# Altium schematic symbol library Switch.SchLib: 78 symbols
Pins are listed as number, name and electrical type; pins without a type are passive.

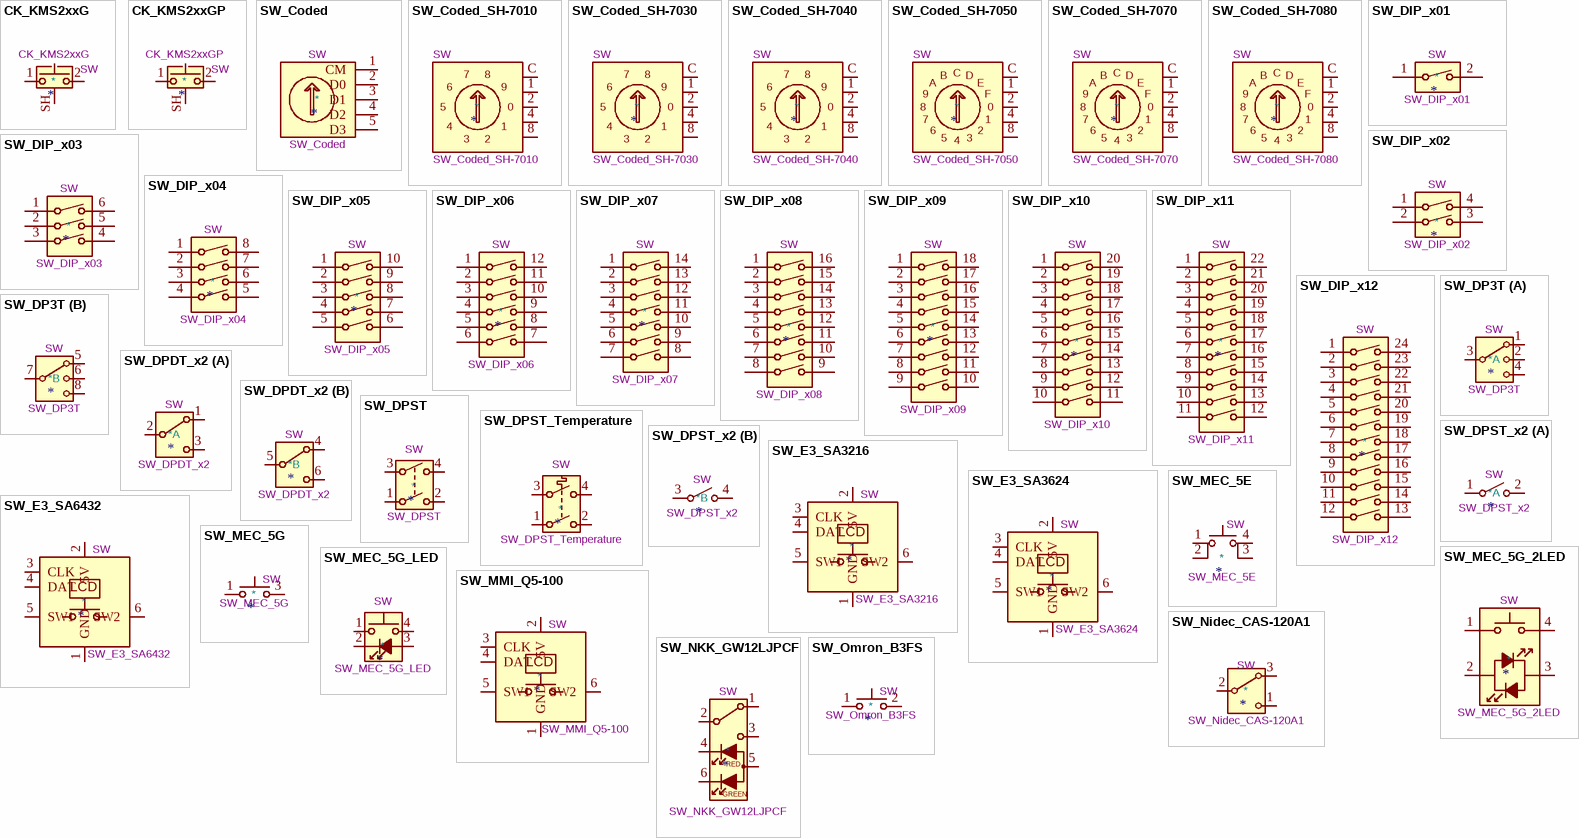
[diagram p0: symbols CK_KMS2xxG to SW_Omron_B3FS]

## CK_KMS2xxG
designator *  value CK_KMS2xxG  Reference: SW
Microminiature SMT Side Actuated, 4.2 x 2.8 x 1.42mm, without pegs, with shield pin; ki_keywords: switch normally-open pushbutton push-button; ki_fp_filters: *SW*KMS2*G*; Footprint: Button_Switch_SMD:SW_SPST_CK_KMS2xxGP; Datasheet: https://www.ckswitches.com/media/1482/kms.pdf; Description_: Microminiature SMT Side Actuated, 4.2 x 2.8 x 1.42mm, without pegs, with shield pin
pins: 1, 2, SH B

## CK_KMS2xxGP
designator *  value CK_KMS2xxGP  Reference: SW
Microminiature SMT Side Actuated, 4.2 x 2.8 x 1.42mm, with pegs, with shield pin; ki_keywords: switch normally-open pushbutton push-button; ki_fp_filters: *SW*KMS2*GP*; Footprint: Button_Switch_SMD:SW_SPST_CK_KMS2xxGP; Datasheet: https://www.ckswitches.com/media/1482/kms.pdf; Description_: Microminiature SMT Side Actuated, 4.2 x 2.8 x 1.42mm, with pegs, with shield pin
pins: 1, 2, SH B

## SW_Coded
designator *  value SW_Coded  Reference: SW
Rotary switch, 4-bit encoding; ki_keywords: rotary hex; Datasheet: ~; Description_: Rotary switch, 4-bit encoding
pins: 1 CM, 2 D0, 3 D1, 4 D2, 5 D3

## SW_Coded_SH-7010
designator *  value SW_Coded_SH-7010  Reference: SW
Rotary switch, 4-bit encoding, 10 positions, Real code; ki_keywords: rotary bcd Real; ki_fp_filters: Nidec*Copal*SH*7010*; Datasheet: https://www.nidec-copal-electronics.com/e/catalog/switch/sh-7000.pdf; Description_: Rotary switch, 4-bit encoding, 10 positions, Real code
pins: 1, 2, 4, 8, C
text: 7; 6; 9; 5; 0; 3

## SW_Coded_SH-7030
designator *  value SW_Coded_SH-7030  Reference: SW
Rotary switch, 4-bit encoding, 10 positions, Complementary code; ki_keywords: rotary bcd Complementary; ki_fp_filters: Nidec*Copal*SH*7010*; Datasheet: https://www.nidec-copal-electronics.com/e/catalog/switch/sh-7000.pdf; Description_: Rotary switch, 4-bit encoding, 10 positions, Complementary code
pins: 1, 2, 4, 8, C
text: 7; 6; 9; 5; 0; 3

## SW_Coded_SH-7040
designator *  value SW_Coded_SH-7040  Reference: SW
Rotary switch, 4-bit encoding, 10 positions, Gray code; ki_keywords: rotary bcd Gray; ki_fp_filters: Nidec*Copal*SH*7040*; Footprint: Button_Switch_SMD:Nidec_Copal_SH-7040B; Datasheet: https://www.nidec-copal-electronics.com/e/catalog/switch/sh-7000.pdf; Description_: Rotary switch, 4-bit encoding, 10 positions, Gray code
pins: 1, 2, 4, 8, C
text: 7; 6; 9; 5; 0; 3

## SW_Coded_SH-7050
designator *  value SW_Coded_SH-7050  Reference: SW
Rotary switch, 4-bit encoding, 16 positions, Real code; ki_keywords: rotary hex Real; ki_fp_filters: Nidec*Copal*SH*7010*; Datasheet: https://www.nidec-copal-electronics.com/e/catalog/switch/sh-7000.pdf; Description_: Rotary switch, 4-bit encoding, 16 positions, Real code
pins: 1, 2, 4, 8, C
text: B; D; A; E; 9; F; 0; 7; 6; 5; 3

## SW_Coded_SH-7070
designator *  value SW_Coded_SH-7070  Reference: SW
Rotary switch, 4-bit encoding, 16 positions, Complementary code; ki_keywords: rotary hex Complementary; ki_fp_filters: Nidec*Copal*SH*7010*; Datasheet: https://www.nidec-copal-electronics.com/e/catalog/switch/sh-7000.pdf; Description_: Rotary switch, 4-bit encoding, 16 positions, Complementary code
pins: 1, 2, 4, 8, C
text: B; D; A; E; 9; F; 0; 7; 6; 5; 3

## SW_Coded_SH-7080
designator *  value SW_Coded_SH-7080  Reference: SW
Rotary switch, 4-bit encoding, 16 positions, Gray code; ki_keywords: rotary hex Gray; ki_fp_filters: Nidec*Copal*SH*7040*; Footprint: Button_Switch_SMD:Nidec_Copal_SH-7040B; Datasheet: https://www.nidec-copal-electronics.com/e/catalog/switch/sh-7000.pdf; Description_: Rotary switch, 4-bit encoding, 16 positions, Gray code
pins: 1, 2, 4, 8, C
text: B; D; A; E; 9; F; 0; 7; 6; 5; 3

## SW_DIP_x01
designator *  value SW_DIP_x01  Reference: SW
1x DIP Switch, Single Pole Single Throw (SPST) switch, small symbol; ki_fp_filters: SW?DIP?x1*; Datasheet: ~; Description_: 1x DIP Switch, Single Pole Single Throw (SPST) switch, small symbol; ki_keywords: dip switch
pins: 1, 2

## SW_DIP_x02
designator *  value SW_DIP_x02  Reference: SW
2x DIP Switch, Single Pole Single Throw (SPST) switch, small symbol; ki_fp_filters: SW?DIP?x2*; Datasheet: ~; Description_: 2x DIP Switch, Single Pole Single Throw (SPST) switch, small symbol; ki_keywords: dip switch
pins: 1, 2, 3, 4

## SW_DIP_x03
designator *  value SW_DIP_x03  Reference: SW
3x DIP Switch, Single Pole Single Throw (SPST) switch, small symbol; ki_fp_filters: SW?DIP?x3*; Datasheet: ~; Description_: 3x DIP Switch, Single Pole Single Throw (SPST) switch, small symbol; ki_keywords: dip switch
pins: 1, 2, 3, 4, 5, 6

## SW_DIP_x04
designator *  value SW_DIP_x04  Reference: SW
4x DIP Switch, Single Pole Single Throw (SPST) switch, small symbol; ki_fp_filters: SW?DIP?x4*; Datasheet: ~; Description_: 4x DIP Switch, Single Pole Single Throw (SPST) switch, small symbol; ki_keywords: dip switch
pins: 1, 2, 3, 4, 5, 6, 7, 8

## SW_DIP_x05
designator *  value SW_DIP_x05  Reference: SW
5x DIP Switch, Single Pole Single Throw (SPST) switch, small symbol; ki_fp_filters: SW?DIP?x5*; Datasheet: ~; Description_: 5x DIP Switch, Single Pole Single Throw (SPST) switch, small symbol; ki_keywords: dip switch
pins: 1, 2, 3, 4, 5, 6, 7, 8, 9, 10

## SW_DIP_x06
designator *  value SW_DIP_x06  Reference: SW
6x DIP Switch, Single Pole Single Throw (SPST) switch, small symbol; ki_fp_filters: SW?DIP?x6*; Datasheet: ~; Description_: 6x DIP Switch, Single Pole Single Throw (SPST) switch, small symbol; ki_keywords: dip switch
pins: 1, 2, 3, 4, 5, 6, 7, 8, 9, 10, 11, 12

## SW_DIP_x07
designator *  value SW_DIP_x07  Reference: SW
7x DIP Switch, Single Pole Single Throw (SPST) switch, small symbol; ki_fp_filters: SW?DIP?x7*; Datasheet: ~; Description_: 7x DIP Switch, Single Pole Single Throw (SPST) switch, small symbol; ki_keywords: dip switch
pins: 1, 2, 3, 4, 5, 6, 7, 8, 9, 10, 11, 12, 13, 14

## SW_DIP_x08
designator *  value SW_DIP_x08  Reference: SW
8x DIP Switch, Single Pole Single Throw (SPST) switch, small symbol; ki_fp_filters: SW?DIP?x8*; Datasheet: ~; Description_: 8x DIP Switch, Single Pole Single Throw (SPST) switch, small symbol; ki_keywords: dip switch
pins: 1, 2, 3, 4, 5, 6, 7, 8, 9, 10, 11, 12, 13, 14, 15, 16

## SW_DIP_x09
designator *  value SW_DIP_x09  Reference: SW
9x DIP Switch, Single Pole Single Throw (SPST) switch, small symbol; ki_fp_filters: SW?DIP?x9*; Datasheet: ~; Description_: 9x DIP Switch, Single Pole Single Throw (SPST) switch, small symbol; ki_keywords: dip switch
pins: 1, 2, 3, 4, 5, 6, 7, 8, 9, 10, 11, 12, 13, 14, 15, 16, 17, 18

## SW_DIP_x10
designator *  value SW_DIP_x10  Reference: SW
10x DIP Switch, Single Pole Single Throw (SPST) switch, small symbol; ki_fp_filters: SW?DIP?x10*; Datasheet: ~; Description_: 10x DIP Switch, Single Pole Single Throw (SPST) switch, small symbol; ki_keywords: dip switch
pins: 1, 2, 3, 4, 5, 6, 7, 8, 9, 10, 11, 12, 13, 14, 15, 16, 17, 18, 19, 20

## SW_DIP_x11
designator *  value SW_DIP_x11  Reference: SW
11x DIP Switch, Single Pole Single Throw (SPST) switch, small symbol; ki_fp_filters: SW?DIP?x11*; Datasheet: ~; Description_: 11x DIP Switch, Single Pole Single Throw (SPST) switch, small symbol; ki_keywords: dip switch
pins: 1, 2, 3, 4, 5, 6, 7, 8, 9, 10, 11, 12, 13, 14, 15, 16, 17, 18, 19, 20, 21, 22

## SW_DIP_x12
designator *  value SW_DIP_x12  Reference: SW
12x DIP Switch, Single Pole Single Throw (SPST) switch, small symbol; ki_fp_filters: SW?DIP?x12*; Datasheet: ~; Description_: 12x DIP Switch, Single Pole Single Throw (SPST) switch, small symbol; ki_keywords: dip switch
pins: 1, 2, 3, 4, 5, 6, 7, 8, 9, 10, 11, 12, 13, 14, 15, 16, 17, 18, 19, 20, 21, 22, 23, 24

## SW_DP3T
designator *  value SW_DP3T  Reference: SW
Switch, three position, dual pole triple throw, 3 position switch, SP3T; ki_keywords: switch dp3t ON-ON-ON; ki_fp_filters: SW* DP3T*; Datasheet: ~; Description_: Switch, three position, dual pole triple throw, 3 position switch, SP3T
part A pins: 1, 2, 3, 4
part B pins: 5, 6, 7, 8

## SW_DPDT_x2
designator *  value SW_DPDT_x2  Reference: SW
Switch, dual pole double throw, separate symbols; ki_keywords: switch dual-pole double-throw DPDT spdt ON-ON; ki_fp_filters: SW*DPDT*; Datasheet: ~; Description_: Switch, dual pole double throw, separate symbols
part A pins: 1 A, 2 B, 3 C
part B pins: 4 A, 5 B, 6 C

## SW_DPST
designator *  value SW_DPST  Reference: SW
Double Pole Single Throw (DPST) Switch; ki_keywords: switch dual double-pole single-throw OFF-ON; Datasheet: ~; Description_: Double Pole Single Throw (DPST) Switch
pins: 1, 2, 3, 4

## SW_DPST_Temperature
designator *  value SW_DPST_Temperature  Reference: SW
Double Pole Single Throw (DPST) Switch, temperature dependent; ki_keywords: temperature switch dual double-pole single-throw OFF-ON; Datasheet: ~; Description_: Double Pole Single Throw (DPST) Switch, temperature dependent
pins: 1, 2, 3, 4

## SW_DPST_x2
designator *  value SW_DPST_x2  Reference: SW
Single Pole Single Throw (SPST) switch, separate symbol; ki_keywords: switch lever; Datasheet: ~; Description_: Single Pole Single Throw (SPST) switch, separate symbol
part A pins: 1 A, 2 B
part B pins: 3 A, 4 B

## SW_E3_SA3216
designator *  value SW_E3_SA3216  Reference: SW
Push button switch with LCD screen; ki_keywords: switch normally-open pushbutton push-button LCD; ki_fp_filters: SW?PUSH?LCD?E3?SAxxxx*; Datasheet: http://www.e3-keys.com/files/SA%20Technical%20Datasheet%20v2.0.pdf; Description_: Push button switch with LCD screen
pins: 1 GND, 2 5V, 3 CLK, 4 DAT, 5 SW1, 6 SW2
text: LCD

## SW_E3_SA3624
designator *  value SW_E3_SA3624  Reference: SW
Push button switch with LCD screen; ki_keywords: switch normally-open pushbutton push-button LCD; ki_fp_filters: SW?PUSH?LCD?E3?SAxxxx*; Datasheet: http://www.e3-keys.com/files/SA%20Technical%20Datasheet%20v2.0.pdf; Description_: Push button switch with LCD screen
pins: 1 GND, 2 5V, 3 CLK, 4 DAT, 5 SW1, 6 SW2
text: LCD

## SW_E3_SA6432
designator *  value SW_E3_SA6432  Reference: SW
Push button switch with LCD screen; ki_keywords: switch normally-open pushbutton push-button LCD; ki_fp_filters: SW?PUSH?LCD?E3?SAxxxx*; Datasheet: http://www.e3-keys.com/files/SA%20Technical%20Datasheet%20v2.0.pdf; Description_: Push button switch with LCD screen
pins: 1 GND, 2 5V, 3 CLK, 4 DAT, 5 SW1, 6 SW2
text: LCD

## SW_MEC_5E
designator *  value SW_MEC_5E  Reference: SW
MEC 5E single pole normally-open tactile switch; ki_keywords: switch normally-open pushbutton push-button; ki_fp_filters: SW*MEC*5G*; Datasheet: http://www.apem.com/int/index.php?controller=attachment&id_attachment=1371; Description_: MEC 5E single pole normally-open tactile switch
pins: 1, 2, 3 K, 4 A

## SW_MEC_5G
designator *  value SW_MEC_5G  Reference: SW
MEC 5G single pole normally-open tactile switch; ki_keywords: switch normally-open pushbutton push-button; ki_fp_filters: SW*MEC*5G*; Datasheet: http://www.apem.com/int/index.php?controller=attachment&id_attachment=488; Description_: MEC 5G single pole normally-open tactile switch
pins: 1 A, 2 A hidden, 3 B, 4 B hidden

## SW_MEC_5G_2LED
designator *  value SW_MEC_5G_2LED  Reference: SW
MEC 5G single pole normally-open illuminated tactile switch with two LEDs; ki_keywords: switch normally-open pushbutton push-button LED; ki_fp_filters: SW*MEC*5G*; Datasheet: http://www.apem.com/int/index.php?controller=attachment&id_attachment=488; Description_: MEC 5G single pole normally-open illuminated tactile switch with two LEDs
pins: 1, 2, 3 K, 4 A

## SW_MEC_5G_LED
designator *  value SW_MEC_5G_LED  Reference: SW
MEC 5G single pole normally-open illuminated tactile switch; ki_keywords: switch normally-open pushbutton push-button LED; ki_fp_filters: SW*MEC*5G*; Datasheet: http://www.apem.com/int/index.php?controller=attachment&id_attachment=488; Description_: MEC 5G single pole normally-open illuminated tactile switch
pins: 1, 2, 3 K, 4 A

## SW_MMI_Q5-100
designator *  value SW_MMI_Q5-100  Reference: SW
Push button switch with LCD screen; ki_keywords: switch normally-open pushbutton push-button LCD; ki_fp_filters: SW?PUSH?LCD?E3?SAxxxx*; Datasheet: http://latest.ledswitches.co.uk/media/pdf/Q5-PCB-V1-withQ5data.pdf; Description_: Push button switch with LCD screen
pins: 1 GND, 2 5V, 3 CLK, 4 DAT, 5 SW1, 6 SW2
text: LCD

## SW_Nidec_CAS-120A1
designator *  value SW_Nidec_CAS-120A1  Reference: SW
Switch, single pole double throw; ki_keywords: switch single-pole double-throw spdt ON-ON; ki_fp_filters: *Nidec?Copal?CAS?120A*; Footprint: Button_Switch_SMD:Nidec_Copal_CAS-120A; Datasheet: https://www.nidec-components.com/e/catalog/switch/cas.pdf; Description_: Switch, single pole double throw
pins: 1 C, 2 B, 3 A

## SW_NKK_GW12LJPCF
designator *  value SW_NKK_GW12LJPCF  Reference: SW
Switch, single pole double throw, illuminated paddle, red and green LEDs; ki_keywords: switch single-pole double-throw spdt ON-ON illuminated red green; ki_fp_filters: SW*NKK*GW12LJP*; Footprint: Button_Switch_THT:SW_NKK_GW12LJP; Datasheet: http://www.nkkswitches.com/pdf/gwillum.pdf; Description_: Switch, single pole double throw, illuminated paddle, red and green LEDs
pins: 1 A, 2 B, 3 C, 4 KR, 5 A, 6 KG
text: RED; GREEN

## SW_Omron_B3FS
designator *  value SW_Omron_B3FS  Reference: SW
Omron B3FS 6x6mm single pole normally-open tactile switch; ki_keywords: switch normally-open pushbutton push-button; ki_fp_filters: SW*Omron*B3FS*; Datasheet: https://omronfs.omron.com/en_US/ecb/products/pdf/en-b3fs.pdf; Description_: Omron B3FS 6x6mm single pole normally-open tactile switch
pins: 1, 2

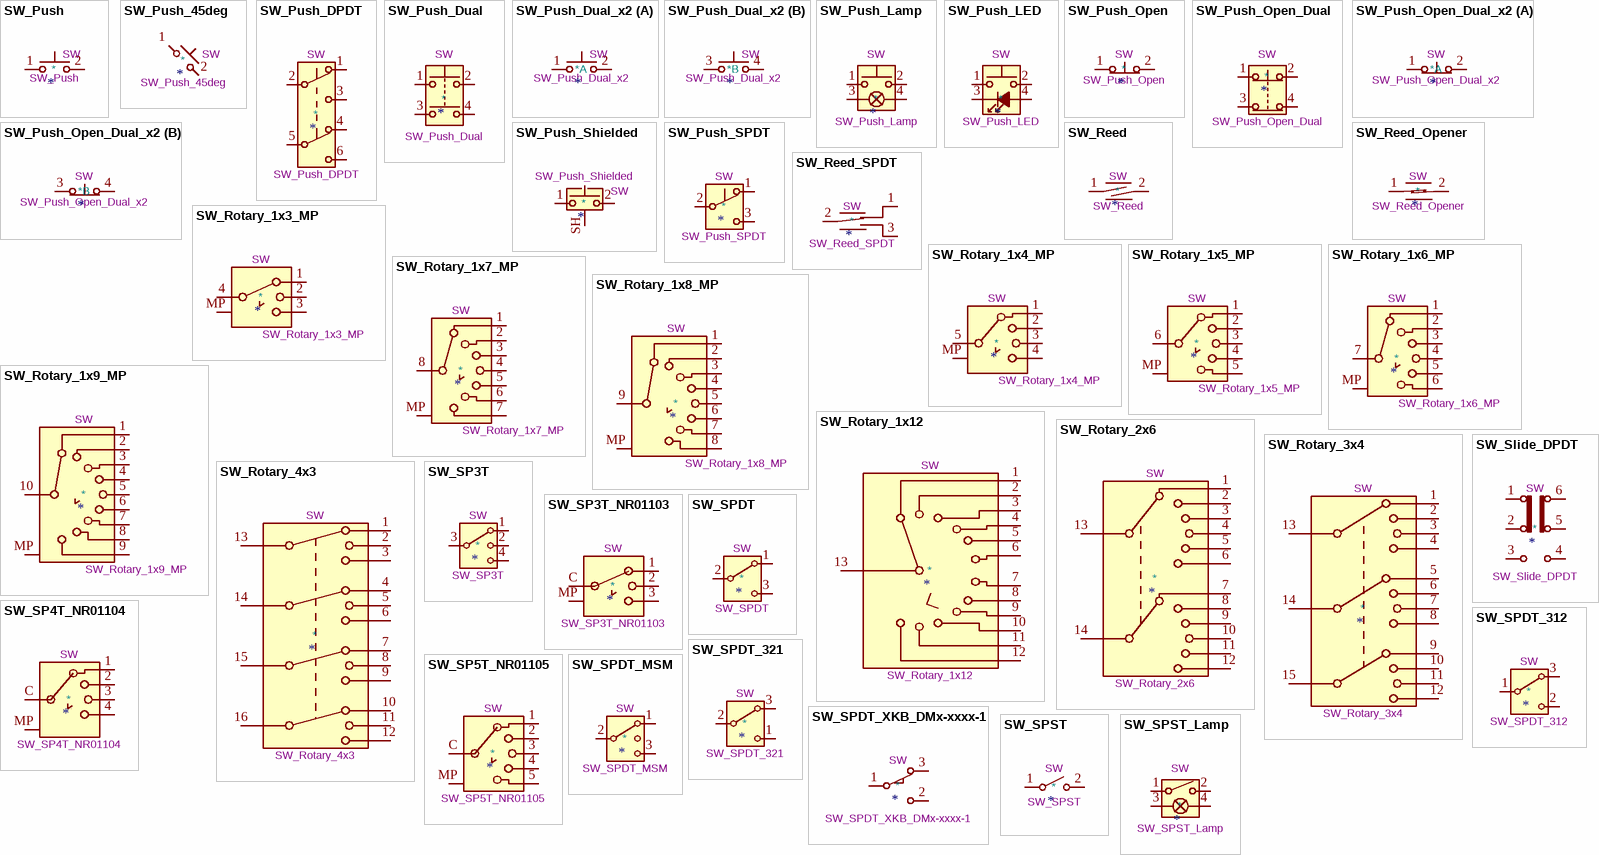
[diagram p1: symbols SW_Push to SW_SPST_Lamp]

## SW_Push
designator *  value SW_Push  Reference: SW
Push button switch, generic, two pins; ki_keywords: switch normally-open pushbutton push-button; Datasheet: ~; Description_: Push button switch, generic, two pins
pins: 1, 2

## SW_Push_45deg
designator *  value SW_Push_45deg  Reference: SW
Push button switch, normally open, two pins, 45° tilted; ki_keywords: switch normally-open pushbutton push-button; Datasheet: ~; Description_: Push button switch, normally open, two pins, 45° tilted
pins: 1, 2

## SW_Push_DPDT
designator *  value SW_Push_DPDT  Reference: SW
Momentary Switch, dual pole double throw; ki_keywords: switch dual-pole double-throw spdt ON-ON; Datasheet: ~; Description_: Momentary Switch, dual pole double throw
pins: 1 A, 2 B, 3 C, 4 A, 5 B, 6 C

## SW_Push_Dual
designator *  value SW_Push_Dual  Reference: SW
Push button switch, generic, symbol, four pins; ki_keywords: switch normally-open pushbutton push-button; Datasheet: ~; Description_: Push button switch, generic, symbol, four pins
pins: 1, 2, 3, 4

## SW_Push_Dual_x2
designator *  value SW_Push_Dual_x2  Reference: SW
Push button switch, generic, separate symbols, four pins; ki_keywords: switch normally-open pushbutton push-button; Datasheet: ~; Description_: Push button switch, generic, separate symbols, four pins
part A pins: 1 C, 2 D
part B pins: 3 C, 4 D

## SW_Push_Lamp
designator *  value SW_Push_Lamp  Reference: SW
Push button switch with Signal Lamp, generic; ki_keywords: switch normally-open pushbutton push-button Lamp; Datasheet: ~; Description_: Push button switch with Signal Lamp, generic
pins: 1, 2, 3 L, 4 L

## SW_Push_LED
designator *  value SW_Push_LED  Reference: SW
Push button switch with LED, generic; ki_keywords: switch normally-open pushbutton push-button LED; Datasheet: ~; Description_: Push button switch with LED, generic
pins: 1, 2, 3 K, 4 A

## SW_Push_Open
designator *  value SW_Push_Open  Reference: SW
Push button switch, push-to-open, generic, two pins; ki_keywords: switch normally-closed pushbutton push-button; Datasheet: ~; Description_: Push button switch, push-to-open, generic, two pins
pins: 1 A, 2 B

## SW_Push_Open_Dual
designator *  value SW_Push_Open_Dual  Reference: SW
Push button switch, normally closed, generic, four pins; ki_keywords: switch normally-closed pushbutton push-button; Datasheet: ~; Description_: Push button switch, normally closed, generic, four pins
pins: 1, 2, 3, 4

## SW_Push_Open_Dual_x2
designator *  value SW_Push_Open_Dual_x2  Reference: SW
Push button switch, push-to-open, generic, two pins; ki_keywords: switch normally-closed pushbutton push-button; Datasheet: ~; Description_: Push button switch, push-to-open, generic, two pins
part A pins: 1, 2
part B pins: 3 1, 4 2

## SW_Push_Shielded
designator *  value SW_Push_Shielded  Reference: SW
Generic push-button switch, two contact pins and shield pin(s); ki_keywords: switch normally-open pushbutton momentary; Datasheet: ~; Description_: Generic push-button switch, two contact pins and shield pin(s)
pins: 1, 2, SH B

## SW_Push_SPDT
designator *  value SW_Push_SPDT  Reference: SW
Momentary Switch, single pole double throw; ki_keywords: switch single-pole double-throw spdt ON-ON; Datasheet: ~; Description_: Momentary Switch, single pole double throw
pins: 1 A, 2 B, 3 C

## SW_Reed
designator *  value SW_Reed  Reference: SW
reed switch; ki_keywords: reed magnetic switch; Datasheet: ~; Description_: reed switch
pins: 1, 2

## SW_Reed_Opener
designator *  value SW_Reed_Opener  Reference: SW
reed switch, default-closed; ki_keywords: reed magnetic switch; Datasheet: ~; Description_: reed switch, default-closed
pins: 1, 2

## SW_Reed_SPDT
designator *  value SW_Reed_SPDT  Reference: SW
SPDT reed switch; ki_keywords: reed magnetic switch SPDT; Datasheet: ~; Description_: SPDT reed switch
pins: 1, 2, 3

## SW_Rotary_1x3_MP
designator *  value SW_Rotary_1x3_MP  Reference: SW
Rotary switch 1x3, SP3T with mount point; ki_keywords: Rotary switch 1x3 SP3T; Datasheet: ~; Description_: Rotary switch 1x3, SP3T with mount point
pins: 1, 2, 3, 4, MP

## SW_Rotary_1x4_MP
designator *  value SW_Rotary_1x4_MP  Reference: SW
Rotary switch 1x4, SP4T with mount point; ki_keywords: Rotary switch 1x4 SP4T; Datasheet: ~; Description_: Rotary switch 1x4, SP4T with mount point
pins: 1, 2, 3, 4, 5, MP

## SW_Rotary_1x5_MP
designator *  value SW_Rotary_1x5_MP  Reference: SW
Rotary switch 1x5, SP5T with mount point; ki_keywords: Rotary switch 1x5 SP5T; Datasheet: ~; Description_: Rotary switch 1x5, SP5T with mount point
pins: 1, 2, 3, 4, 5, 6, MP

## SW_Rotary_1x6_MP
designator *  value SW_Rotary_1x6_MP  Reference: SW
Rotary switch 1x6, SP6T with mount point; ki_keywords: Rotary switch 1x6 SP6T; Datasheet: ~; Description_: Rotary switch 1x6, SP6T with mount point
pins: 1, 2, 3, 4, 5, 6, 7, MP

## SW_Rotary_1x7_MP
designator *  value SW_Rotary_1x7_MP  Reference: SW
Rotary switch 1x7, SP7T with mount point; ki_keywords: Rotary switch 1x7 SP7T; Datasheet: ~; Description_: Rotary switch 1x7, SP7T with mount point
pins: 1, 2, 3, 4, 5, 6, 7, 8, MP

## SW_Rotary_1x8_MP
designator *  value SW_Rotary_1x8_MP  Reference: SW
Rotary switch 1x8, SP8T with mount point; ki_keywords: Rotary switch 1x8 SP8T; Datasheet: ~; Description_: Rotary switch 1x8, SP8T with mount point
pins: 1, 2, 3, 4, 5, 6, 7, 8, 9, MP

## SW_Rotary_1x9_MP
designator *  value SW_Rotary_1x9_MP  Reference: SW
Rotary switch 1x8, SP8T with mount point; ki_keywords: Rotary switch 1x8 SP8T; Datasheet: ~; Description_: Rotary switch 1x8, SP8T with mount point
pins: 1, 2, 3, 4, 5, 6, 7, 8, 9, 10, MP

## SW_Rotary_1x12
designator *  value SW_Rotary_1x12  Reference: SW
rotary switch with 12 positions; ki_keywords: rotary switch 1x12; Datasheet: http://cdn-reichelt.de/documents/datenblatt/C200/DS-Serie%23LOR.pdf; Description_: rotary switch with 12 positions
pins: 1, 2, 3, 4, 5, 6, 7, 8, 9, 10, 11, 12, 13

## SW_Rotary_2x6
designator *  value SW_Rotary_2x6  Reference: SW
2 rotary switch with 6 positions; ki_keywords: rotary switch 2x6; Datasheet: http://cdn-reichelt.de/documents/datenblatt/C200/DS-Serie%23LOR.pdf; Description_: 2 rotary switch with 6 positions
pins: 1, 2, 3, 4, 5, 6, 7, 8, 9, 10, 11, 12, 13, 14

## SW_Rotary_3x4
designator *  value SW_Rotary_3x4  Reference: SW
3 rotary switches with 4 positions; ki_keywords: rotary switch 3x4; Datasheet: http://cdn-reichelt.de/documents/datenblatt/C200/DS-Serie%23LOR.pdf; Description_: 3 rotary switches with 4 positions
pins: 1, 2, 3, 4, 5, 6, 7, 8, 9, 10, 11, 12, 13, 14, 15

## SW_Rotary_4x3
designator *  value SW_Rotary_4x3  Reference: SW
4 rotary switches with 3 positions; ki_keywords: rotary switch 4x3; Datasheet: http://cdn-reichelt.de/documents/datenblatt/C200/DS-Serie%23LOR.pdf; Description_: 4 rotary switches with 3 positions
pins: 1, 2, 3, 4, 5, 6, 7, 8, 9, 10, 11, 12, 13, 14, 15, 16

## SW_Slide_DPDT
designator *  value SW_Slide_DPDT  Reference: SW
Slide Switch, dual pole double throw; ki_keywords: switch dual-pole double-throw dpdt ON-ON; Datasheet: ~; Description_: Slide Switch, dual pole double throw
pins: 1 A, 2 B, 3 C, 4 A, 5 B, 6 C

## SW_SP3T
designator *  value SW_SP3T  Reference: SW
Switch, three position, single pole triple throw, 3 position switch, SP3T; ki_keywords: switch sp3t ON-ON-ON; ki_fp_filters: SW* SP3T*; Datasheet: ~; Description_: Switch, three position, single pole triple throw, 3 position switch, SP3T
pins: 1, 2, 3, 4

## SW_SP3T_NR01103
designator *  value SW_SP3T_NR01103  Reference: SW
NKK Switches NR01 Series rotary SP3T switch; ki_keywords: NR01 SP3T Switch; ki_fp_filters: SW?NKK?NR01*; Footprint: Button_Switch_THT:SW_NKK_NR01; Datasheet: https://www.nkkswitches.com/pdf/NR01%20Rotaries.pdf; Description_: NKK Switches NR01 Series rotary SP3T switch
pins: 1, 2, 3, 4 hidden, 5 hidden, C Common, MP

## SW_SP4T_NR01104
designator *  value SW_SP4T_NR01104  Reference: SW
NKK Switches NR01 Series rotary SP4T switch; ki_keywords: NR01 SP4T Switch; ki_fp_filters: SW?NKK?NR01*; Footprint: Button_Switch_THT:SW_NKK_NR01; Datasheet: https://www.nkkswitches.com/pdf/NR01%20Rotaries.pdf; Description_: NKK Switches NR01 Series rotary SP4T switch
pins: 1, 2, 3, 4, 5 hidden, C Common, MP

## SW_SP5T_NR01105
designator *  value SW_SP5T_NR01105  Reference: SW
NKK Switches NR01 Series rotary SP5T switch; ki_keywords: NR01 SP5T Switch; ki_fp_filters: SW?NKK?NR01*; Footprint: Button_Switch_THT:SW_NKK_NR01; Datasheet: https://www.nkkswitches.com/pdf/NR01%20Rotaries.pdf; Description_: NKK Switches NR01 Series rotary SP5T switch
pins: 1, 2, 3, 4, 5, C Common, MP

## SW_SPDT
designator *  value SW_SPDT  Reference: SW
Switch, single pole double throw; ki_keywords: switch single-pole double-throw spdt ON-ON; Datasheet: ~; Description_: Switch, single pole double throw
pins: 1 A, 2 B, 3 C

## SW_SPDT_312
designator *  value SW_SPDT_312  Reference: SW
Switch, single pole double throw; ki_keywords: changeover single-pole double-throw spdt ON-ON; Datasheet: ~; Description_: Switch, single pole double throw
pins: 1 B, 2 C, 3 A

## SW_SPDT_321
designator *  value SW_SPDT_321  Reference: SW
Switch, single pole double throw; ki_keywords: switch single-pole double-throw spdt ON-ON; Datasheet: ~; Description_: Switch, single pole double throw
pins: 1 C, 2 B, 3 A

## SW_SPDT_MSM
designator *  value SW_SPDT_MSM  Reference: SW
Switch, single pole double throw, center OFF position; ki_keywords: switch spdt single-pole double-throw ON-OFF-ON; Datasheet: ~; Description_: Switch, single pole double throw, center OFF position
pins: 1, 2 3, 3 4

## SW_SPDT_XKB_DMx-xxxx-1
designator *  value SW_SPDT_XKB_DMx-xxxx-1  Reference: SW
Position switch; ki_keywords: limit switch single pole double throw spdt microswitch; ki_fp_filters: SW?XKB?DM??16U??1*; Datasheet: ~; Description_: Position switch
pins: 1 A, 2 B, 3 C

## SW_SPST
designator *  value SW_SPST  Reference: SW
Single Pole Single Throw (SPST) switch; ki_keywords: switch lever; Datasheet: ~; Description_: Single Pole Single Throw (SPST) switch
pins: 1 A, 2 B

## SW_SPST_Lamp
designator *  value SW_SPST_Lamp  Reference: SW
Single Pole Single Throw (SPST) switch with signal lamp, generic; ki_keywords: switch SPST LED OFF-ON lamp; Datasheet: ~; Description_: Single Pole Single Throw (SPST) switch with signal lamp, generic
pins: 1, 2, 3 L, 4 L

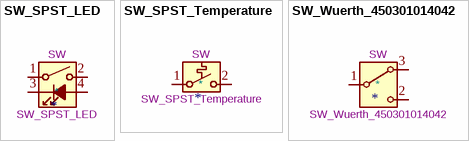
[diagram p2: symbols SW_SPST_LED to SW_Wuerth_450301014042]

## SW_SPST_LED
designator *  value SW_SPST_LED  Reference: SW
Single Pole Single Throw (SPST) switch with LED, generic; ki_keywords: switch SPST LED OFF-ON; Datasheet: ~; Description_: Single Pole Single Throw (SPST) switch with LED, generic
pins: 1, 2, 3 K, 4 A

## SW_SPST_Temperature
designator *  value SW_SPST_Temperature  Reference: SW
Single Pole Single Throw (SPST) switch, temperature dependent; ki_keywords: temperature switch; Datasheet: ~; Description_: Single Pole Single Throw (SPST) switch, temperature dependent
pins: 1 A, 2 B

## SW_Wuerth_450301014042
designator *  value SW_Wuerth_450301014042  Reference: SW
Switch slide, single pole double throw; ki_keywords: changeover single-pole opposite-side-connection double-throw spdt ON-ON; ki_fp_filters: SW*Wuerth*WS*SLTV*10x2.5x6.4*P2.54mm*; Footprint: Button_Switch_THT:SW_Slide-03_Wuerth-WS-SLTV_10x2.5x6.4_P2.54mm; Datasheet: https://www.we-online.com/components/products/datasheet/450301014042.pdf; Description_: Switch slide, single pole double throw
pins: 1 B, 2 C, 3 A